# EAGLE library part ES_DAISY_PETAL_SM_BED_OF_NAILS (library Electrosmith-Boards)
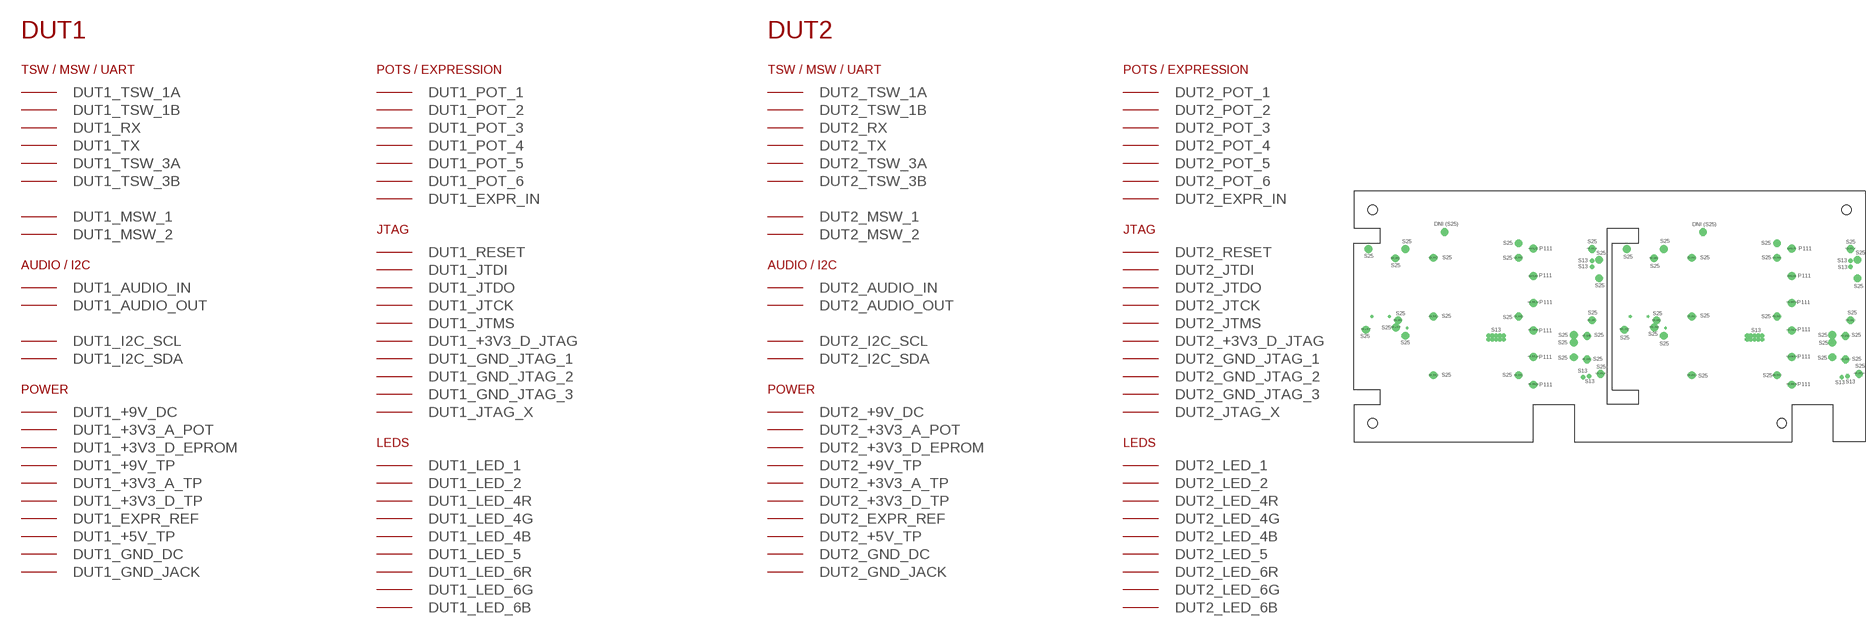
[diagram p24: symbol with the pads of ES_DAISY_PETAL_SM_BED_OF_NAILS; footprint ES_DAISY_PETAL_SM_BED_OF_NAILS]

Designator prefix -

## ES_DAISY_PETAL_SM_BED_OF_NAILS  [ES_DAISY_PETAL_SM_BED_OF_NAILS]
DUT1_+3V3_A_POT  DUT1_+3V3_A_POT
DUT1_+3V3_A_TP  DUT1_+3V3_A_TP
DUT1_+3V3_D_EPROM  DUT1_+3V3_D_EPROM
DUT1_+3V3_D_JTAG  DUT1_+3V3_D_JTAG
DUT1_+3V3_D_TP  DUT1_+3V3_D_TP
DUT1_+5V_TP  DUT1_+5V_TP
DUT1_+9V_DC  DUT1_+9V_DC
DUT1_+9V_TP  DUT1_+9V_TP
DUT1_AUDIO_IN  DUT1_AUDIO_IN
DUT1_AUDIO_OUT  DUT1_AUDIO_OUT
DUT1_EXPR_IN  DUT1_EXPR_IN
DUT1_EXPR_REF  DUT1_EXPR_REF
DUT1_GND_DC  DUT1_GND_DC
DUT1_GND_JACK  DUT1_GND_JACK
DUT1_GND_JTAG_1  DUT1_GND_JTAG_1
DUT1_GND_JTAG_2  DUT1_GND_JTAG_2
DUT1_GND_JTAG_3  DUT1_GND_JTAG_3
DUT1_I2C_SCL  DUT1_I2C_SCL
DUT1_I2C_SDA  DUT1_I2C_SDA
DUT1_JTAG_X  DUT1_JTAG_X
DUT1_JTCK  DUT1_JTCK
DUT1_JTDI  DUT1_JTDI
DUT1_JTDO  DUT1_JTDO
DUT1_JTMS  DUT1_JTMS
DUT1_LED_1  DUT1_LED_1
DUT1_LED_2  DUT1_LED_2
DUT1_LED_4B  DUT1_LED_4B
DUT1_LED_4G  DUT1_LED_4G
DUT1_LED_4R  DUT1_LED_4R
DUT1_LED_5  DUT1_LED_5
DUT1_LED_6B  DUT1_LED_6B
DUT1_LED_6G  DUT1_LED_6G
DUT1_LED_6R  DUT1_LED_6R
DUT1_MSW_1  DUT1_MSW_1
DUT1_MSW_2  DUT1_MSW_2
DUT1_POT_1  DUT1_POT_1
DUT1_POT_2  DUT1_POT_2
DUT1_POT_3  DUT1_POT_3
DUT1_POT_4  DUT1_POT_4
DUT1_POT_5  DUT1_POT_5
DUT1_POT_6  DUT1_POT_6
DUT1_RESET  DUT1_RESET
DUT1_RX  DUT1_RX
DUT1_TSW_1A  DUT1_TSW_1A
DUT1_TSW_1B  DUT1_TSW_1B
DUT1_TSW_3A  DUT1_TSW_3A
DUT1_TSW_3B  DUT1_TSW_3B
DUT1_TX  DUT1_TX
DUT2_+3V3_A_POT  DUT2_+3V3_A_POT
DUT2_+3V3_A_TP  DUT2_+3V3_A_TP
DUT2_+3V3_D_EPROM  DUT2_+3V3_D_EPROM
DUT2_+3V3_D_JTAG  DUT2_+3V3_D_JTAG
DUT2_+3V3_D_TP  DUT2_+3V3_D_TP
DUT2_+5V_TP  DUT2_+5V_TP
DUT2_+9V_DC  DUT2_+9V_DC
DUT2_+9V_TP  DUT2_+9V_TP
DUT2_AUDIO_IN  DUT2_AUDIO_IN
DUT2_AUDIO_OUT  DUT2_AUDIO_OUT
DUT2_EXPR_IN  DUT2_EXPR_IN
DUT2_EXPR_REF  DUT2_EXPR_REF
DUT2_GND_DC  DUT2_GND_DC
DUT2_GND_JACK  DUT2_GND_JACK
DUT2_GND_JTAG_1  DUT2_GND_JTAG_1
DUT2_GND_JTAG_2  DUT2_GND_JTAG_2
DUT2_GND_JTAG_3  DUT2_GND_JTAG_3
DUT2_I2C_SCL  DUT2_I2C_SCL
DUT2_I2C_SDA  DUT2_I2C_SDA
DUT2_JTAG_X  DUT2_JTAG_X
DUT2_JTCK  DUT2_JTCK
DUT2_JTDI  DUT2_JTDI
DUT2_JTDO  DUT2_JTDO
DUT2_JTMS  DUT2_JTMS
DUT2_LED_1  DUT2_LED_1
DUT2_LED_2  DUT2_LED_2
DUT2_LED_4B  DUT2_LED_4B
DUT2_LED_4G  DUT2_LED_4G
DUT2_LED_4R  DUT2_LED_4R
DUT2_LED_5  DUT2_LED_5
DUT2_LED_6B  DUT2_LED_6B
DUT2_LED_6G  DUT2_LED_6G
DUT2_LED_6R  DUT2_LED_6R
DUT2_MSW_1  DUT2_MSW_1
DUT2_MSW_2  DUT2_MSW_2
DUT2_POT_1  DUT2_POT_1
DUT2_POT_2  DUT2_POT_2
DUT2_POT_3  DUT2_POT_3
DUT2_POT_4  DUT2_POT_4
DUT2_POT_5  DUT2_POT_5
DUT2_POT_6  DUT2_POT_6
DUT2_RESET  DUT2_RESET
DUT2_RX  DUT2_RX
DUT2_TSW_1A  DUT2_TSW_1A
DUT2_TSW_1B  DUT2_TSW_1B
DUT2_TSW_3A  DUT2_TSW_3A
DUT2_TSW_3B  DUT2_TSW_3B
DUT2_TX  DUT2_TX

## Footprint ES_DAISY_PETAL_SM_BED_OF_NAILS (pad centres in mm)
drill 1.75 pad 2.616: DUT1_+3V3_A_POT 92.89,-104.54; DUT1_+3V3_D_EPROM 111.703,-143.423; DUT1_+3V3_D_TP 67.729,-100.718; DUT1_+5V_TP 40.932,-134.007; DUT1_AUDIO_IN 54.39,-106.54; DUT1_AUDIO_OUT 54.39,-136.04; DUT1_EXPR_IN 120.34,-116.52; DUT1_EXPR_REF 120.34,-110.22; DUT1_GND_JACK 41.79,-106.54; DUT1_LED_1 50.992,-109.642; DUT1_LED_4R 120.844,-149.09; DUT1_LED_5 117.89,-130.81; DUT1_LED_6R 117.89,-106.54; DUT1_MSW_1 116.255,-136.11; DUT1_MSW_2 116.255,-144.14; DUT1_POT_1 92.89,-109.54; DUT1_POT_2 92.89,-149.54; DUT1_POT_3 63.89,-109.54; DUT1_POT_4 92.89,-129.54; DUT1_POT_5 63.89,-129.54; DUT1_POT_6 63.89,-149.54; DUT2_+3V3_A_POT 180.89,-104.54; DUT2_+3V3_D_EPROM 199.702,-143.423; DUT2_+3V3_D_TP 155.729,-100.718; DUT2_+5V_TP 128.933,-134.007; DUT2_AUDIO_IN 142.39,-106.54; DUT2_AUDIO_OUT 142.39,-136.04; DUT2_EXPR_IN 208.34,-116.52; DUT2_EXPR_REF 208.34,-110.22; DUT2_GND_JACK 129.79,-106.54; DUT2_LED_1 138.992,-109.642; DUT2_LED_4R 208.844,-149.09; DUT2_LED_5 205.89,-130.81; DUT2_LED_6R 205.89,-106.54; DUT2_MSW_1 204.255,-136.11; DUT2_MSW_2 204.255,-144.14; DUT2_POT_1 180.89,-109.54; DUT2_POT_2 180.89,-149.54; DUT2_POT_3 151.89,-109.54; DUT2_POT_4 180.89,-129.54; DUT2_POT_5 151.89,-129.54; DUT2_POT_6 151.89,-149.54; DUT2_TSW_1A 185.89,-152.74
drill 0.5: DUT1_+3V3_A_TP 54.957,-133.42; DUT1_+9V_DC 42.99,-129.54; DUT1_GND_DC 48.99,-129.54; DUT2_+3V3_A_TP 142.957,-133.42; DUT2_+9V_DC 130.99,-129.54; DUT2_GND_DC 136.99,-129.54
drill 0.95 pad 1.11 octagon: DUT1_+3V3_D_JTAG 87.812,-137.306; DUT1_GND_JTAG_1 86.543,-137.306; DUT1_GND_JTAG_2 85.272,-137.306; DUT1_GND_JTAG_3 82.733,-137.306; DUT1_JTAG_X 84.002,-137.306; DUT1_JTCK 86.543,-136.036; DUT1_JTDI 84.002,-136.036; DUT1_JTDO 85.272,-136.036; DUT1_JTMS 87.812,-136.036; DUT1_RESET 82.733,-136.036; DUT2_+3V3_D_JTAG 175.812,-137.306; DUT2_GND_JTAG_1 174.542,-137.306; DUT2_GND_JTAG_2 173.273,-137.306; DUT2_GND_JTAG_3 170.732,-137.306; DUT2_JTAG_X 172.002,-137.306; DUT2_JTCK 174.542,-136.036; DUT2_JTDI 172.002,-136.036; DUT2_JTDO 173.273,-136.036; DUT2_JTMS 175.812,-136.036; DUT2_RESET 170.732,-136.036
drill 1.75 pad 2.4: DUT1_+9V_TP 51.105,-133.28; DUT1_LED_2 51.89,-130.81; DUT2_+9V_TP 139.105,-133.28; DUT2_LED_2 139.89,-130.81
drill 1.75 pad 2.3: DUT1_I2C_SCL 111.703,-138.34; DUT1_I2C_SDA 111.703,-135.8; DUT2_I2C_SCL 199.702,-138.34; DUT2_I2C_SDA 199.702,-135.8
drill 0.95 pad 1.5: DUT1_LED_4B 114.936,-150.13; DUT1_LED_4G 116.905,-149.79; DUT1_LED_6B 117.89,-112.54; DUT1_LED_6G 117.89,-110.54; DUT2_LED_4B 202.936,-150.13; DUT2_LED_4G 204.905,-149.79; DUT2_LED_6B 205.89,-112.54; DUT2_LED_6G 205.89,-110.54
drill 1.8 pad 2.616: DUT1_RX 97.89,-115.74; DUT1_TSW_1A 97.89,-152.74; DUT1_TSW_1B 97.89,-143.34; DUT1_TSW_3A 97.89,-134.24; DUT1_TSW_3B 97.89,-124.84; DUT1_TX 97.89,-106.34; DUT2_RX 185.89,-115.74; DUT2_TSW_1B 185.89,-143.34; DUT2_TSW_3A 185.89,-134.24; DUT2_TSW_3B 185.89,-124.84; DUT2_TX 185.89,-106.34
hole 3.175 at 43.24,-165.89
hole 3.175 at 182.54,-165.89
hole 3.175 at 43.24,-93.19
hole 3.175 at 204.54,-93.19